# EAGLE library part NES_CONTROLLER_PORT (library NES)
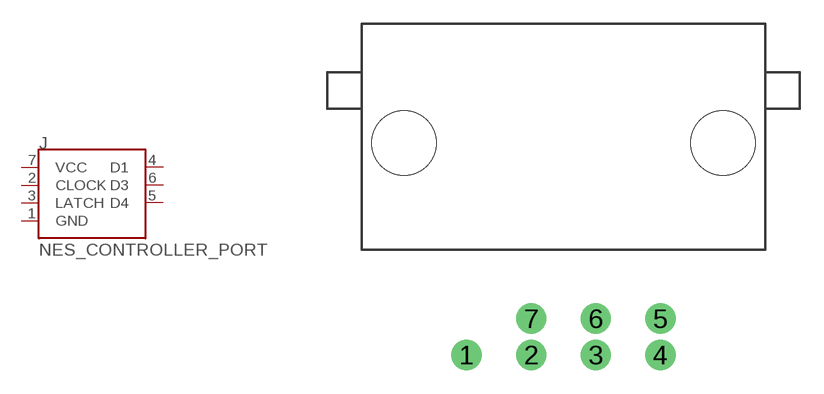
[diagram p0: symbol with the pads of NES_CONTROLLER_PORT_7PIN_90; footprint NES_CONTROLLER_PORT_7PIN_90]

Designator prefix J

## NES_CONTROLLER_PORT  [NES_CONTROLLER_PORT_7PIN_90]
1  GND
2  CLOCK
3  LATCH
4  D1
5  D4
6  D3
7  VCC

## Footprint NES_CONTROLLER_PORT_7PIN_90 (pad centres in mm)
drill 1.27: 1 -6.096,-13.335; 2 -2.032,-13.335; 3 2.032,-13.335; 4 6.096,-13.335; 5 6.096,-11.049; 6 2.032,-11.049; 7 -2.032,-11.049
hole 4.064 at -10.033,0
hole 4.064 at 10.033,0